# Altium schematic symbol library SSM6N813R,LF.SchLib: 1 symbol
Pins are listed as number, name and electrical type; pins without a type are passive.

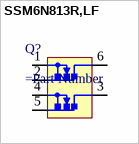
[diagram p0: symbol SSM6N813R,LF]

## SSM6N813R,LF
designator Q?
=Description
pins: 1, 2, 3, 4, 5, 6